# Altium footprint library sod_123.PcbLib: 1 footprints
Each footprint in its own frame and in the unit in brackets; x right, y up, seen from the top. Pads: shape width x height; smd on the part's side, far side on the other; paste and mask are expansions set on the pad; w line width, h text height; cw(c..) or ccw(c..) is an arc to the next point about the centre after c.
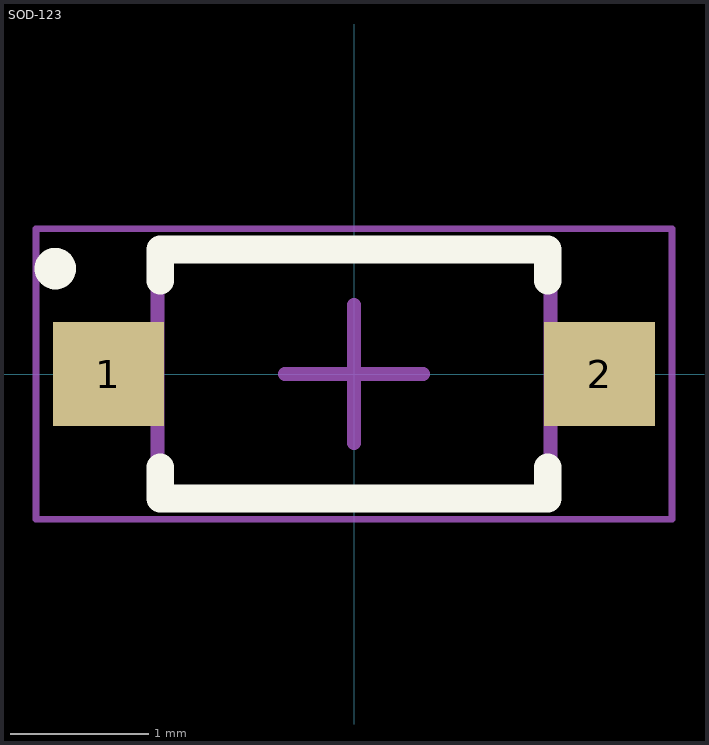
[diagram p0: the footprint, top view; thin cyan lines are the x and y axes]

## SOD-123 [mm] "SODFL, 2-Leads, Body 1,60x3,71mm, IPC Medium Density"
height 1.35
pads (2):
  rect 0.8x0.75 smd: 1(-1.775,0) 2(1.775,0)
Top Overlay:
  circle w0.2: c-2.159,0.762 r0.05
  lines w0.2: -1.4,-0.675 -1.4,-0.9 1.4,-0.9 1.4,-0.675 ; -1.4,0.675 -1.4,0.9 1.4,0.9 1.4,0.675
Top Comment:
  text ".Comment" at 1.016,1.397 h1.2
Top Designator:
  text ".Designator" at -0.127,1.397 h1.2
Top Component Outline:
  lines w0.1: -1.42,-0.9 1.42,-0.9 1.42,0.9 -1.42,0.9 -1.42,-0.9
Top Courtyard (Mech15):
  lines w0.05: -2.3,-1.05 2.3,-1.05 2.3,1.05 -2.3,1.05 -2.3,-1.05
  lines w0.1: -0.5,0 0.5,0 ; 0,-0.5 0,0.5
3D body "SOD-123.STEP": height 1.5, standoff -0.03, extent -1.825,-0.775 1.825,0.775